# Altium footprint library Tank.PcbLib: 288 footprints (part 6 of 18)
Each footprint in its own frame and in the unit in brackets; x right, y up, seen from the top. Pads: shape width x height; smd on the part's side, far side on the other; paste and mask are expansions set on the pad; w line width, h text height; cw(c..) or ccw(c..) is an arc to the next point about the centre after c.
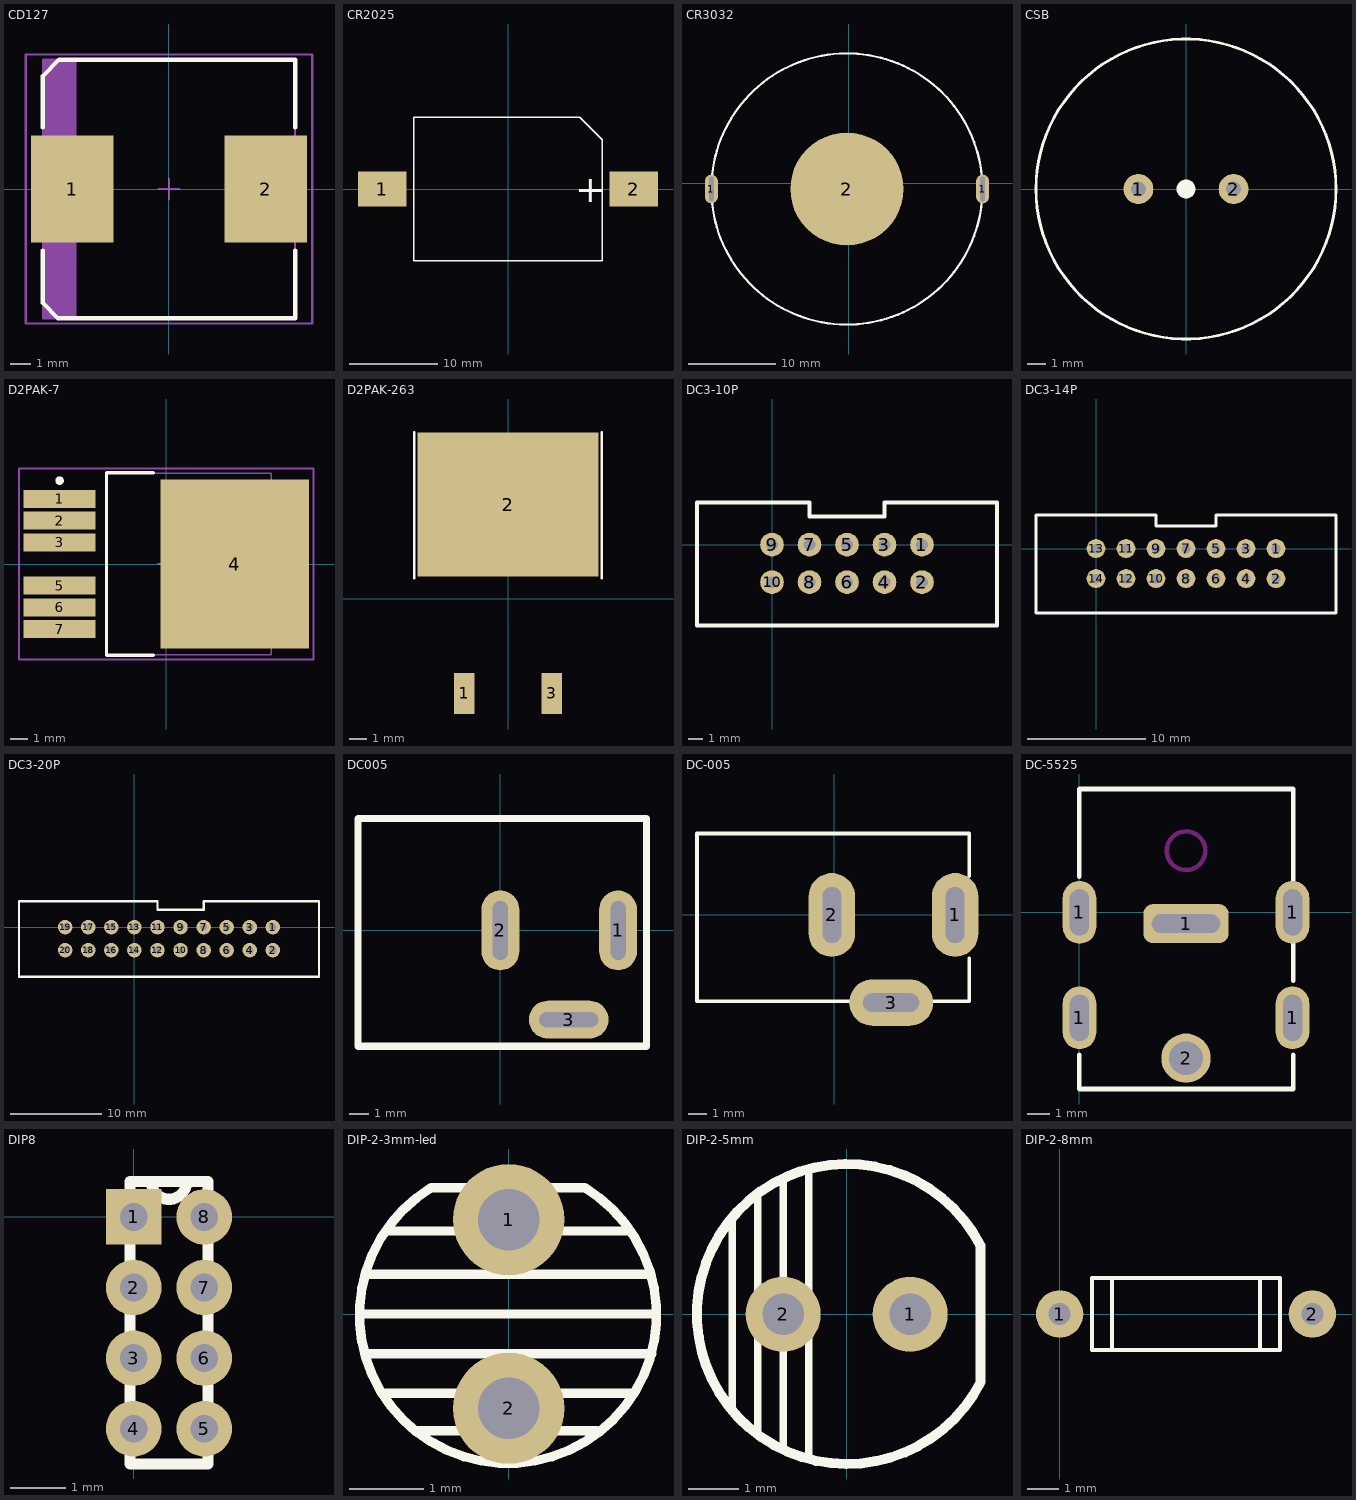
[diagram p5: the footprints below, top view; thin cyan lines are the x and y axes]

## CD127 [mm]
height 5
pads (2):
  rect 4x5.15 smd: 1(-4.675,0) 2(4.675,0)
Top Overlay:
  lines w0.2: -6.1,-2.975 -6.1,-5.508 -5.358,-6.25 6.1,-6.25 6.1,-2.975 ; -6.1,2.975 -6.1,5.457 -5.307,6.25 6.1,6.25 6.1,2.975
Mechanical 13:
  rectangle: -6.1,-6.25 -4.459,6.25
  lines w0.1: -6.1,-6.25 -6.1,6.25 6.1,6.25 6.1,-6.25 -6.1,-6.25
Mechanical 15:
  lines w0.1: -0.5,0 0.5,0 ; 0,-0.5 0,0.5 ; -6.925,-6.5 -6.925,6.5 6.925,6.5 6.925,-6.5 -6.925,-6.5
3D body: height 5, standoff 0, extent -6.1,-6.25 6.1,6.25

## CR2025 [mm]
pads (2):
  rect 5.5x4 smd: 1(-14.224,0) 2(14.224,0)
Top Overlay:
  lines w0.2: -10.668,-8.128 10.668,-8.128 10.668,5.588 8.128,8.128 -10.668,8.128 -10.668,-8.128
  text "+" at 7.62,-1.524 h3

## CR3032 [mm]
pads (3):
  oval 1.5x3.3 hole 0.5 slot 2.85 at 90 deg: 1(-15.829,-0.686) 1(15.392,-0.686)
  round 13 smd: 2(-0.229,-0.686)
Top Overlay:
  circle w0.254: c-0.229,-0.686 r15.6

## CSB [mm]
pads (2):
  round 1.6 hole 0.8: 1(-2.54,0) 2(2.54,0)
Top Overlay:
  circle w0.152: c0,0 r8
  circle w0.5: c0,0 r0.254

## D2PAK-7 [mm]
height 4.4
pads (7):
  rect 4.2x1.05 smd: 1(-6.25,3.81) 2(-6.25,2.54) 3(-6.25,1.27) 5(-6.25,-1.27) 6(-6.25,-2.54) 7(-6.25,-3.81)
  rect 8.7x9.9 smd: 4(4,0)
Top Overlay:
  circle w0.25: c-6.25,4.885 r0.125
  lines w0.2: -0.75,-5.35 -3.5,-5.35 -3.5,5.35 -0.75,5.35
Mechanical 13:
  lines w0.1: -3.5,-5.325 6.15,-5.325 6.15,5.325 -3.5,5.325 -3.5,-5.325
Mechanical 15:
  lines w0.1: -0.5,0 0.5,0 ; 0,-0.5 0,0.5 ; -8.625,-5.6 8.625,-5.6 8.625,5.6 -8.625,5.6 -8.625,-5.6
3D body: height 4.4, standoff 0.4, extent -3.5,-5.325 6.15,5.325

## D2PAK-263 [mm]
pads (3):
  rect 1.2x2.4 smd: 1(-2.54,-5.5) 3(2.54,-5.5)
  rect 10.55x8.4 smd: 2(0,5.5)
Top Overlay:
  lines w0.127: -5.461,1.194 -5.461,9.728 ; 5.461,1.194 5.461,9.728

## DC3-10P [mm]
pads (10):
  round 1.6 hole 0.8: 1(10.16,0) 2(10.16,-2.54) 3(7.62,0) 4(7.62,-2.54) 5(5.08,0) 6(5.08,-2.54) 7(2.54,0) 8(2.54,-2.54) 9(0,0) 10(0,-2.54)
Top Overlay:
  lines w0.25: -5.08,-5.477 15.24,-5.477 15.24,2.857 7.62,2.857 7.62,1.905 2.54,1.905 2.54,2.857 -5.08,2.857 -5.08,-5.477

## DC3-14P [mm]
pads (14):
  round 1.6 hole 0.8: 1(15.24,0) 2(15.24,-2.54) 3(12.7,0) 4(12.7,-2.54) 5(10.16,0) 6(10.16,-2.54) 7(7.62,0) 8(7.62,-2.54) 9(5.08,0) 10(5.08,-2.54) 11(2.54,0) 12(2.54,-2.54) 13(0,0) 14(0,-2.54)
Top Overlay:
  lines w0.25: -5.08,-5.477 -5.08,2.857 5.08,2.857 5.08,1.905 10.16,1.905 10.16,2.857 20.32,2.857 20.32,-5.477 -5.08,-5.477

## DC3-20P [mm]
pads (20):
  round 1.6 hole 0.8: 1(15.24,0) 2(15.24,-2.54) 3(12.7,0) 4(12.7,-2.54) 5(10.16,0) 6(10.16,-2.54) 7(7.62,0) 8(7.62,-2.54) 9(5.08,0) 10(5.08,-2.54) 11(2.54,0) 12(2.54,-2.54) 13(0,0) 14(0,-2.54) 15(-2.54,0) 16(-2.54,-2.54) 17(-5.08,0) 18(-5.08,-2.54) 19(-7.62,0) 20(-7.62,-2.54)
Top Overlay:
  lines w0.25: -12.7,-5.477 -12.7,2.857 2.54,2.857 2.54,1.905 7.62,1.905 7.62,2.857 20.32,2.857 20.32,-5.477 -12.7,-5.477

## DC005 [mm]
pads (3):
  oval 2x4.2 hole 0.8 slot 3.1 at 90 deg: 1(6.2,0) 2(0,0)
  oval 4.2x2 hole 0.8 slot 3.1 at 0 deg: 3(3.6,-4.7)
Top Overlay:
  lines w0.381: -7.493,-6.096 -7.493,5.893 7.696,5.893 7.696,-6.096 -7.493,-6.096

## DC-005 [mm]
pads (3):
  oval 2.5x4.5 hole 1 slot 3 at 90 deg: 1(6.477,0) 2(-0.127,0)
  oval 4.5x2.5 hole 1 slot 3 at 0 deg: 3(3.048,-4.699)
Top Overlay:
  lines w0.2: 0.934,-4.627 -7.366,-4.627 -7.366,4.373 7.234,4.373 7.234,2.073 ; 5.334,-4.627 7.234,-4.627 7.234,-2.327

## DC-5525 [mm]
pads (6):
  oval 1.5x2.8 hole 0.85 slot 2.06 at 90 deg: 1(0,-4.7) 1(0,0) 1(9.5,-4.7) 1(9.5,0)
  rrect50% 3.8x1.75 hole 0.83 slot 3.05 at 0 deg: 1(4.75,-0.5)
  round 2.2 hole 1.5: 2(4.75,-6.5)
Top Overlay:
  lines w0.203: 0,-6.35 0,-7.874 9.271,-7.874 9.525,-7.874 9.525,-6.35 ; 0,1.592 0,5.5 9.525,5.5 9.525,-1.524 9.525,-3.048
Keep-Out Layer:
  circle w0.2: c4.75,2.75 r0.86

## DIP8 [mm]
pads (8):
  rect 1x1 hole 0.5: 1(0,0)
  round 1 hole 0.5: 2(0,-1.27) 3(0,-2.54) 4(0,-3.81) 5(1.27,-3.81) 6(1.27,-2.54) 7(1.27,-1.27) 8(1.27,0)
Top Overlay:
  lines w0.2: -0.065,-4.445 -0.065,0.635 0.953,0.635 cw(c0.635,0.635) 0.318,0.635 1.335,0.635 1.335,-4.445 -0.065,-4.445

## DIP-2-3mm-led [mm]
pads (2):
  round 1.5 hole 0.83: 1(0,1.27) 2(0,-1.27)
Top Overlay:
  lines w0.127: -1.981,0 1.956,0 ; -1.905,-0.533 1.93,-0.533 ; -1.905,0.533 1.905,0.533 ; -1.676,-1.067 1.651,-1.067 ; -1.651,1.118 1.6,1.118 ; -1.245,-1.575 1.194,-1.575 ; 1.016,1.702 -1.041,1.702 ccw(c-0.009,-0.011) 1.022,1.703

## DIP-2-5mm [mm]
pads (2):
  round 1.5 hole 0.83: 1(1.27,0) 2(-1.27,0)
Top Overlay:
  lines w0.15: -2.286,-1.905 -2.286,1.905 ; -1.778,-2.413 -1.778,2.413 ; -1.27,-2.667 -1.27,2.667 ; -0.762,-2.794 -0.762,2.794
  lines w0.2: 2.674,1.382 ccw(c0.007,0.007) 2.682,-1.352 2.682,1.382

## DIP-2-8mm [mm]
pads (2):
  round 1.5 hole 0.7: 1(0,0) 2(8.001,0)
Top Overlay:
  lines w0.127: 1.651,-1.143 1.651,1.143 ; 6.35,-1.143 6.35,1.143 ; 1.016,-1.143 6.985,-1.143 6.985,1.143 1.016,1.143 1.016,-1.143